# Altium schematic symbol library SchLib_ADH.SchLib: 241 symbols (part 8 of 9)
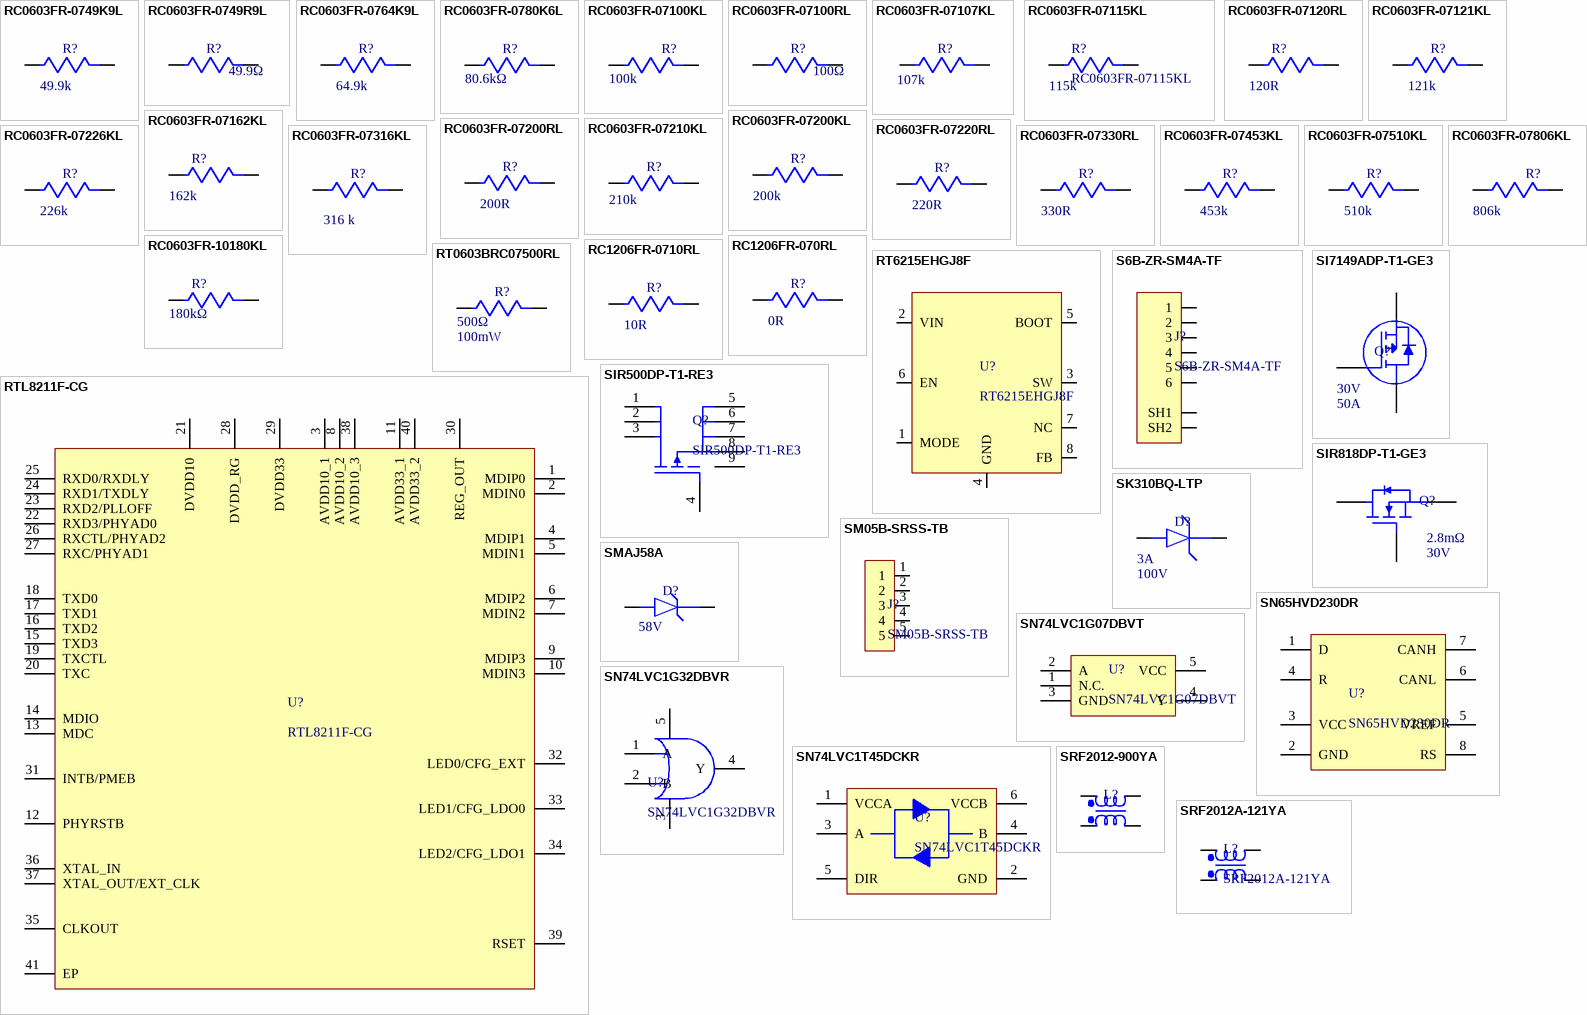
[diagram p14: symbols RC0603FR-0749K9L to SRF2012A-121YA]

## RC1206FR-0710RL
designator R?  value 10R  (hidden comment: RC1206FR-0710RL)
SMD Chip Resistor, 10 Ohm, ± 1%, 250 mW, 1206 [3216 Metric], Thick Film, General Purpose; Manufacturer: Yageo; Voltage Rating (AC): 200V; Supplier: Digikey; Supplier Part Number: 311-10.0FRCT-ND; Manufacturer Part Number: RC1206FR-0710RL; RoHS: Yes; Category: Chip SMD Resistors; Stock: 1026850; Pricing: 1=0,13, 10=0,064, 50=0,0426, 100=0,0364, 500=0,02612, 1000=0,023 (USD); Lead Free: 5697LeadFree; ComponentLink1URL: https://datasheet.ciiva.com/11819/0900766b80c6630a-11819896.pdf?src-supplier=Rs; ComponentLink1Description: https://datasheet.ciiva.com/11819/0900766b80c6630a-11819896.pdf?src-supplier=Rs; ComponentLink2URL: https://datasheet.ciiva.com/22735/444357-22735648.pdf?src-supplier=Farnell; ComponentLink2Description: https://datasheet.ciiva.com/22735/444357-22735648.pdf?src-supplier=Farnell; ComponentLink3URL: https://datasheet.ciiva.com/29181/402303-da-01-en-smd-widerstand-chip1206-10-ohm-29181572.pdf?src-supplier=Conrad; ComponentLink3Description: https://datasheet.ciiva.com/29181/402303-da-01-en-smd-widerstand-chip1206-10-ohm-29181572.pdf?src-supplier=Conrad; ComponentLink4URL: https://datasheet.ciiva.com/2460/pyu-rc1206-51-rohs-l-4-2460048.pdf?src-supplier=Digikey; ComponentLink4Description: https://datasheet.ciiva.com/2460/pyu-rc1206-51-rohs-l-4-2460048.pdf?src-supplier=Digikey; ComponentLink5URL: https://datasheet.ciiva.com/2460/pyu-rc1206-51-rohs-l-4-2460049.pdf?src-supplier=Digikey; ComponentLink5Description: https://datasheet.ciiva.com/2460/pyu-rc1206-51-rohs-l-4-2460049.pdf?src-supplier=Digikey; ComponentLink6URL: https://datasheet.ciiva.com/2460/pyu-rc1206-51-rohs-l-4-2460050.pdf?src-supplier=Digikey; ComponentLink6Description: https://datasheet.ciiva.com/2460/pyu-rc1206-51-rohs-l-4-2460050.pdf?src-supplier=Digikey; ComponentLink7URL: https://datasheet.ciiva.com/46445/444357-46445704.pdf?src-supplier=Element14; ComponentLink7Description: https://datasheet.ciiva.com/46445/444357-46445704.pdf?src-supplier=Element14; ComponentLink8URL: https://datasheet.ciiva.com/16962/pyu-rc1206-51-rohs-l-4-16962857.pdf?src-supplier=Future+Electronics; ComponentLink8Description: https://datasheet.ciiva.com/16962/pyu-rc1206-51-rohs-l-4-16962857.pdf?src-supplier=Future+Electronics
footprint R-1206
pins: 1, 2

## RT0603BRC07500RL
designator R?  value 500Ω  Power Rating: 100mW  (hidden comment: RT0603BRC07500RL)
Fixed Resistor, Thin Film, 0.1W, 500ohm, 75V, 0.1% +/-Tol, 15ppm/Cel, Surface Mount, 0603; Manufacturer: Yageo Group; Temperature Coefficient: 15ppm/°C; Supplier: Farnell; Supplier Part Number: 4152629; Manufacturer Part Number: RT0603BRC07500RL; RoHS: Compliant; Category: Chip SMD Resistors; Stock: 4870; Pricing: 5000=0,12 (EUR); Case/Package: 0603; China RoHS: Non-Compliant; Composition: Thin Film; Height: 450µm; Lifecycle Status: Production; Max Operating Temperature: 155°C; Min Operating Temperature: -55°C; Mounting Technology: Surface Mount; Number of Terminals: 2; Packaging: Tape & Reel; Power Dissipation: 100mW; REACH SVHC: Yes; Tolerance: 0.1%; Voltage Rating: 75V; Width: 800µm; Working Voltage: 75V; ComponentLink1URL: https://datasheet.octopart.com:443/RT0603BRC07500RL-Yageo-datasheet-176402239.pdf?src-supplier=IHS; ComponentLink1Description: https://datasheet.octopart.com:443/RT0603BRC07500RL-Yageo-datasheet-176402239.pdf?src-supplier=IHS; ComponentLink2URL: https://datasheet.octopart.com:443/RT0603BRC07500RL-Yageo-datasheet-141265893.pdf?src-supplier=ODG+(Origin+Data+Global); ComponentLink2Description: https://datasheet.octopart.com:443/RT0603BRC07500RL-Yageo-datasheet-141265893.pdf?src-supplier=ODG+(Origin+Data+Global); ComponentLink3URL: https://datasheet.octopart.com:443/RT0603BRC07500RL-Yageo-datasheet-169971040.pdf?src-supplier=Upverter; ComponentLink3Description: https://datasheet.octopart.com:443/RT0603BRC07500RL-Yageo-datasheet-169971040.pdf?src-supplier=Upverter; ComponentLink4URL: https://datasheet.octopart.com:443/RT0603BRC07500RL-Yageo-datasheet-166250672.pdf?src-supplier=Future+Electronics; ComponentLink4Description: https://datasheet.octopart.com:443/RT0603BRC07500RL-Yageo-datasheet-166250672.pdf?src-supplier=Future+Electronics; ComponentLink5URL: https://datasheet.octopart.com/RT0603BRC07500RL-Yageo-datasheet-86813807.pdf; ComponentLink5Description: https://datasheet.octopart.com/RT0603BRC07500RL-Yageo-datasheet-86813807.pdf; ComponentLink6URL: http://sigma.octopart.com:80/rohs_statement/Yageo-company-2.pdf?src-supplier=Compliance+Statements; ComponentLink6Description: http://sigma.octopart.com:80/rohs_statement/Yageo-company-2.pdf?src-supplier=Compliance+Statements; ComponentLink7URL: http://sigma.octopart.com:80/conflict_mineral_statement/Yageo-company-3.pdf?src-supplier=Compliance+Statements; ComponentLink7Description: http://sigma.octopart.com:80/conflict_mineral_statement/Yageo-company-3.pdf?src-supplier=Compliance+Statements
footprint RESISTOR_0603
pins: 1, 2

## RT6215EHGJ8F
designator U?
Buck Switching Regulator IC Positive Adjustable 0.791V 1 Output 2A SOT-23-8 Thin, TSOT-23-8; Manufacturer: Richtek; Number of Outputs: 1; Min Input Voltage: 4.5V; Max Supply Voltage: 24V; Min Output Voltage: 791mV; Max Output Voltage: 5V; Switching Frequency: 500kHz; Synchronous Rectifier: Yes; Supplier: Digi-Key; Supplier Part Number: RT6215EHGJ8FCT-ND; Manufacturer Part Number: RT6215EHGJ8F; RoHS: No; Category: Voltage Regulators - Switching; Stock: 5469; Pricing: 1=0,99, 10=0,888, 25=0,8428, 100=0,6923, 250=0,64712, 500=0,57186, 1000=0,45147 (USD); Min Operating Temperature: -40°C; Max Operating Temperature: 85°C; Output Current: 2A; Output Type: Adjustable; Output Configuration: Positive; Series: ACOT™; RoHS Compliant: Yes; ComponentLink1URL: http://www.farnell.com/datasheets/2259293.pdf?src-supplier=Farnell; ComponentLink1Description: http://www.farnell.com/datasheets/2259293.pdf?src-supplier=Farnell; ComponentLink2URL: http://www.farnell.com/datasheets/2259293.pdf?src-supplier=Newark; ComponentLink2Description: http://www.farnell.com/datasheets/2259293.pdf?src-supplier=Newark; ComponentLink3URL: http://www.richtek.com/assets/product_file/RT6215E/DS6215E-00.pdf?src-supplier=Digi-Key; ComponentLink3Description: http://www.richtek.com/assets/product_file/RT6215E/DS6215E-00.pdf?src-supplier=Digi-Key; ComponentLink4URL: https://www.richtek.com/assets/product_file/RT6215E/DS6215E-00.pdf?src-supplier=Digi-Key; ComponentLink4Description: https://www.richtek.com/assets/product_file/RT6215E/DS6215E-00.pdf?src-supplier=Digi-Key
footprint IC_LTC2960HTS8-1#TRMPBF
pins: 1 MODE, 2 VIN, 3 SW, 4 GND, 5 BOOT, 6 EN, 7 NC, 8 FB

## RTL8211F-CG
designator U?
Ethernet Transceiver RGMII WQFN-40-EP(5x5) Drivers, Receivers, Transceivers RoHS; Manufacturer Part Number: RTL8211F-CG
footprint QFN40P500X500X90-41N-D
pins: 1 MDIP0, 2 MDIN0, 3 AVDD10_1, 4 MDIP1, 5 MDIN1, 6 MDIP2, 7 MDIN2, 8 AVDD10_2, 9 MDIP3, 10 MDIN3, 11 AVDD33_1, 12 PHYRSTB, 13 MDC, 14 MDIO, 15 TXD3, 16 TXD2, 17 TXD1, 18 TXD0, 19 TXCTL, 20 TXC, 21 DVDD10, 22 RXD3/PHYAD0, 23 RXD2/PLLOFF, 24 RXD1/TXDLY, 25 RXD0/RXDLY, 26 RXCTL/PHYAD2, 27 RXC/PHYAD1, 28 DVDD_RG, 29 DVDD33, 30 REG_OUT, 31 INTB/PMEB, 32 LED0/CFG_EXT, 33 LED1/CFG_LDO0, 34 LED2/CFG_LDO1, 35 CLKOUT, 36 XTAL_IN, 37 XTAL_OUT/EXT_CLK, 38 AVDD10_3, 39 RSET, 40 AVDD33_2, 41 EP

## S6B-ZR-SM4A-TF
designator J?
Header S6B-ZR-SM4A-TF, 1.50mm, 6-contacts, side entry, SMT, /1000/reel; Manufacturer: JST; Number of Contacts: 6; Gender: Male; Supplier: Digi-Key; Supplier Part Number: 455-S6B-ZR-SM4A-TFCT-ND; Manufacturer Part Number: S6B-ZR-SM4A-TF; RoHS: Yes; Category: Connectors; Stock: 59171; Pricing: 1=0,8, 10=0,701, 100=0,578, 500=0,50258 (USD); Mounting Technology: Surface Mount; Contact Plating: Tin; Contact Material: Brass; Number of Rows: 1; Termination: SMD/SMT; Packaging: Cut Tape; Series: ZH; Orientation: Horizontal; Reach SVHC Compliant: Yes; ComponentLink1URL: http://www.farnell.com/datasheets/1393424.pdf?src-supplier=Farnell; ComponentLink1Description: http://www.farnell.com/datasheets/1393424.pdf?src-supplier=Farnell; ComponentLink2URL: http://www.farnell.com/datasheets/621906.pdf?src-supplier=Newark; ComponentLink2Description: http://www.farnell.com/datasheets/621906.pdf?src-supplier=Newark; ComponentLink3URL: http://www.farnell.com/datasheets/621906.pdf?src-supplier=Element14; ComponentLink3Description: http://www.farnell.com/datasheets/621906.pdf?src-supplier=Element14
footprint JST_S6B-ZR-SM4A-TF(LF)(SN)
pins: 1, 2, 3, 4, 5, 6, SH1, SH2

## SI7149ADP-T1-GE3
designator Q?  Voltage Rating: 30V  Current Rating: 50A  (hidden comment: SI7149ADP-T1-GE3)
P-Channel 30-V (D-S) Mosfet Rohs Compliant: Yes |Vishay SI7149ADP-T1-GE3; Manufacturer: Vishay Siliconix; Supplier: Digikey; Supplier Part Number: SI7149ADP-T1-GE3CT-ND; Manufacturer Part Number: SI7149ADP-T1-GE3; RoHS: Yes; Category: MOSFETs; Stock: 19680; Pricing: 1=0,87, 10=0,755, 100=0,5227, 500=0,43672, 1000=0,37168 (USD); ComponentLink1URL: https://datasheet.ciiva.com/24009/si7149adp-254096-24009021.pdf?src-supplier=Mouser; ComponentLink1Description: https://datasheet.ciiva.com/24009/si7149adp-254096-24009021.pdf?src-supplier=Mouser; ComponentLink2URL: https://datasheet.ciiva.com/30021/si7149adp-30021558.pdf?src-supplier=Avnet; ComponentLink2Description: https://datasheet.ciiva.com/30021/si7149adp-30021558.pdf?src-supplier=Avnet; ComponentLink3URL: https://datasheet.ciiva.com/18566/si7149adp-18566890.pdf?src-supplier=Digikey; ComponentLink3Description: https://datasheet.ciiva.com/18566/si7149adp-18566890.pdf?src-supplier=Digikey; ComponentLink4URL: https://datasheet.ciiva.com/18566/si7149adp-18566891.pdf?src-supplier=Digikey; ComponentLink4Description: https://datasheet.ciiva.com/18566/si7149adp-18566891.pdf?src-supplier=Digikey; ComponentLink5URL: https://datasheet.ciiva.com/18566/si7149adp-18566892.pdf?src-supplier=Digikey; ComponentLink5Description: https://datasheet.ciiva.com/18566/si7149adp-18566892.pdf?src-supplier=Digikey
footprint SIR500DPT1RE3
pins: 1, 2, 3, 4, 5, 6, 7, 8, 9

## SIR500DP-T1-RE3
designator Q?
Mosfet, N-Ch, 30V, 350.8A, Powerpak So Rohs Compliant: Yes; Manufacturer: Vishay; Supplier: Digi-Key; Supplier Part Number: 742-SIR500DP-T1-RE3CT-ND; Manufacturer Part Number: SIR500DP-T1-RE3; RoHS: Yes; Stock: 5276; Pricing: 1=1,58, 10=1,31, 100=1,0425, 500=0,88208, 1000=0,74843 (USD)
footprint SIR500DPT1RE3
pins: 1 S_1, 2 S_2, 3 S_3, 4 G, 5 D_1, 6 D_2, 7 D_3, 8 D_4, 9 EP

## SIR818DP-T1-GE3
designator Q?  Rds On Max: 2.8mΩ  Drain to Source Breakdown Voltage: 30V  (hidden comment: SIR818DP-T1-GE3)
Single N-Channel 30 V 0.0028 Ohm 69 W Surface Mount Power Mosfet - PowerPAK-SO-8; Manufacturer: Vishay; Continuous Drain Current (ID): 50A; Drain to Source Resistance: 3.3mΩ; Fall Time: 10ns; Gate to Source Voltage (Vgs): 20V; Input Capacitance: 3.66nF; Max Power Dissipation: 69W; Number of Channels: 1; Power Dissipation: 5.2W; Value: 2.8mΩ; Rise Time: 15ns; Turn-Off Delay Time: 36ns; Turn-On Delay Time: 14ns; Supplier: Arrow Electronics; Supplier Part Number: SIR818DP-T1-GE3; Manufacturer Part Number: SIR818DP-T1-GE3; RoHS: Compliant; Category: MOSFETs; Stock: 3000; Pricing: 3000=0,4523 (USD); Drain to Source Voltage (Vdss): 30V; Element Configuration: Single; Lead Free: Lead Free; Lifecycle Status: NRND; Max Operating Temperature: 150°C; Min Breakdown Voltage: 30V; Min Operating Temperature: -55°C; Mounting Technology: Surface Mount; Number of Elements: 1; Pins: 8; Number of Terminals: 5; Radiation Hardening: No; REACH SVHC: Yes; Schedule B: 8541290080, 8541290080|8541290080|8541290080|8541290080|8541290080; Weight: 506.605978mg; ComponentLink1URL: https://datasheet.octopart.com:443/SIR818DP-T1-GE3-Vishay-datasheet-181474050.pdf?src-supplier=IHS; ComponentLink1Description: https://datasheet.octopart.com:443/SIR818DP-T1-GE3-Vishay-datasheet-181474050.pdf?src-supplier=IHS; ComponentLink2URL: https://datasheet.octopart.com:443/SIR818DP-T1-GE3-Vishay-datasheet-12524466.pdf?src-supplier=Future+Electronics; ComponentLink2Description: https://datasheet.octopart.com:443/SIR818DP-T1-GE3-Vishay-datasheet-12524466.pdf?src-supplier=Future+Electronics; ComponentLink3URL: http://sigma.octopart.com:80/rohs_statement/Vishay-company-15.pdf?src-supplier=Compliance+Statements; ComponentLink3Description: http://sigma.octopart.com:80/rohs_statement/Vishay-company-15.pdf?src-supplier=Compliance+Statements
footprint SIR500DPT1RE3
pins: 1 S_1, 2 S_2, 3 S_3, 4 G, 5 D_1, 6 D_2, 7 D_3, 8 D_4, 9 EP

## SK310BQ-LTP
designator D?  Current: 3A  Voltage: 100V  (hidden comment: SK310BQ-LTP)
Diode Schottky 100V 3A 2-Pin SMB T/R Automotive AEC-Q101; Manufacturer: MCC; Supplier: Digikey; Supplier Part Number: 353-SK310BQ-LTPCT-ND; Manufacturer Part Number: SK310BQ-LTP; RoHS: No; Category: LDO; Stock: 5725; Pricing: 1=0,62, 10=0,542, 100=0,375, 500=0,3133, 1000=0,26664 (USD)
footprint DIOM5436X247N
pins: A, C

## SM05B-SRSS-TB
designator J?
Header SM05B-SRSS-TB, 1.00mm, 5-contacts, side entry, SMT /3000/reel; Manufacturer: JST; Number of Positions: 5; Pitch: 0.039inch; Supplier: Digi-Key; Supplier Part Number: 455-SM05B-SRSS-TBCT-ND; Manufacturer Part Number: SM05B-SRSS-TB; RoHS: No; Category: Connectors; Stock: 32066; Pricing: 1=0,71, 10=0,618, 100=0,5091, 500=0,44268, 1000=0,36521 (USD); Mounting Technology: Surface Mount; Color: Natural; Contact Plating: Tin,Lead; Contact Material: Copper Alloy; Housing Color: Natural; Housing Material: Nylon; Number of Rows: 1; Packaging: Cut Tape; Termination: Solder; Number of Contacts: 5; Series: SR; Contact Type: Male Pin; Package Quantity: 1; Lead Free: Contains Lead; ComponentLink1URL: https://datasheet.ciiva.com/6905/srconnector-6905301.pdf?src-supplier=Digi-Key; ComponentLink1Description: https://datasheet.ciiva.com/6905/srconnector-6905301.pdf?src-supplier=Digi-Key; ComponentLink2URL: https://datasheet.ciiva.com/6905/srconnector-6905303.pdf?src-supplier=Digi-Key; ComponentLink2Description: https://datasheet.ciiva.com/6905/srconnector-6905303.pdf?src-supplier=Digi-Key
footprint JST-SR-SIDE-5
pins: 1, 2, 3, 4, 5

## SMAJ58A
designator D?  Rep Pk Reverse Voltage-Max: 58V  (hidden comment: SMAJ58A)
Trans Voltage Suppressor Diode, 400W, 58V V(RWM), Unidirectional, 1 Element, Silicon, DO-214AC; Manufacturer: Littelfuse; Package Body Material: Plastic; Number of Elements: 1; Max Breakdown Voltage: 71.2V; Min Breakdown Voltage: 64.4V; Breakdown Voltage-Nom: 67.8V; Time @ Peak Reflow Temperature-Max (s): 40s; Clamping Voltage-Max: 93.6V; Qualification Status: Not Qualified; Supplier 1: Digikey; Manufacturer Part Number: SMAJ58A; RoHS: Yes; Category: TVS Diodes; Stock 1: 32791; Pricing 1: 1=0.39, 10=0.275, 100=0.1385, 500=0.12278, 1000=0.09555, 2000=0.08552 (USD); Pins: 2; Package Shape: Rectangular; Terminal Finish: Tin; Diode Element Material: SILICON; Min Operating Temperature: -65°C; Max Operating Temperature: 150°C; JESD-30 Code: R-PDSO-C2; Package Style: SMALL OUTLINEMeter; Surface Mount: Yes; Terminal Form: C BEND; Terminal Position: DUAL; JESD-609 Code: e3; Moisture Sensitivity Level: 1; Technology: AVALANCHE; Polarity: Unidirectional; Diode Type: TRANS VOLTAGE SUPPRESSOR; Non-rep Peak Rev Power Dis-Max: 400W; Peak Reflow Temperature (Cel): 260°C; RoHS Compliant: Yes; Reach SVHC Compliant: No; JEDEC-95 Code: DO-214AC; ComponentLink1URL: https://datasheet.ciiva.com:443/pdfs/VipMasterIC/IC/LFSI/LFSI-S-A0001360630/LFSI-S-A0001360630-1.pdf?src-supplier=IHS+Markit; ComponentLink1Description: https://datasheet.ciiva.com:443/pdfs/VipMasterIC/IC/LFSI/LFSI-S-A0001360630/LFSI-S-A0001360630-1.pdf?src-supplier=IHS+Markit; Supplier Part Number 1: SMAJ58ALFCT-ND
footprint DIODE_B160-13-F
pins: 1, 2

## SN65HVD230DR
designator U?
EAR99 65HVD230 Cut Tape (CT) CANbus interface driver 3.3V 17mA 72.603129mg 1Mbps; Manufacturer: Texas Instruments; Slew Rate: 15V/µs; Supplier: Digi-Key; Supplier Part Number: 296-11654-1-ND; Manufacturer Part Number: SN65HVD230DR; RoHS: Yes; Category: Interface ICs; Stock: 83402; Pricing: 1=2,5, 10=2,248, 25=2,1208, 100=1,8071, 250=1,6968, 500=1,4847, 1000=1,23018 (USD); Length: 4.9mm; Width: 3.91mm; Height: 1.75mm; Thickness: 1.58mm; ComponentLink1URL: https://datasheet.ciiva.com/3303/slos346k-3303008.pdf?src-supplier=Avnet; ComponentLink1Description: https://datasheet.ciiva.com/3303/slos346k-3303008.pdf?src-supplier=Avnet; ComponentLink2URL: https://datasheet.ciiva.com/27052/1495682-27052294.pdf?src-supplier=Jameco; ComponentLink2Description: https://datasheet.ciiva.com/27052/1495682-27052294.pdf?src-supplier=Jameco; ComponentLink3URL: https://datasheet.ciiva.com/4781/sn65hvd230-86923-4781328.pdf?src-supplier=Mouser; ComponentLink3Description: https://datasheet.ciiva.com/4781/sn65hvd230-86923-4781328.pdf?src-supplier=Mouser; ComponentLink4URL: https://datasheet.ciiva.com/28652/1695240-28652369.pdf?src-supplier=Element14; ComponentLink4Description: https://datasheet.ciiva.com/28652/1695240-28652369.pdf?src-supplier=Element14; ComponentLink5URL: https://datasheet.ciiva.com/15150/getdatasheetpartid-393721-15150028.pdf?src-supplier=Verical; ComponentLink5Description: https://datasheet.ciiva.com/15150/getdatasheetpartid-393721-15150028.pdf?src-supplier=Verical; ComponentLink6URL: https://datasheet.ciiva.com/1705/sn65hvd230-1705286.pdf?src-supplier=Digi-Key; ComponentLink6Description: https://datasheet.ciiva.com/1705/sn65hvd230-1705286.pdf?src-supplier=Digi-Key; ComponentLink7URL: https://datasheet.ciiva.com/1705/sn65hvd230-1705287.pdf?src-supplier=Digi-Key; ComponentLink7Description: https://datasheet.ciiva.com/1705/sn65hvd230-1705287.pdf?src-supplier=Digi-Key; ComponentLink8URL: https://datasheet.ciiva.com/1705/sn65hvd230-1705288.pdf?src-supplier=Digi-Key; ComponentLink8Description: https://datasheet.ciiva.com/1705/sn65hvd230-1705288.pdf?src-supplier=Digi-Key; ComponentLink9URL: https://datasheet.ciiva.com/22694/1887486-22694362.pdf?src-supplier=Element14; ComponentLink9Description: https://datasheet.ciiva.com/22694/1887486-22694362.pdf?src-supplier=Element14
footprint SOIC127P599X175-8N
pins: 1 D, 2 GND, 3 VCC, 4 R, 5 VREF, 6 CANL, 7 CANH, 8 RS

## SN74LVC1G07DBVT
designator U?
32mA 1 1.65V~5.5V 1 SOT-23-5 Buffer/Driver/Transceiver ROHS; Manufacturer: Texas Instruments; Manufacturer Lifecycle Status: ACTIVE; Logic Function: Buffer, Inverting; Max Junction Temperature (Tj): 150°C; Max Supply Voltage: 5.5V; Min Supply Voltage: 1.65V; Nominal Supply Current: 10µA; Number of Bits: 1; Polarity: Non-Inverting; Propagation Delay: 4ns; Turn-On Delay Time: 8.3ns; Supplier: Arrow Electronics; Supplier Part Number: SN74LVC1G07DBVT; Manufacturer Part Number: SN74LVC1G07DBVT; RoHS: Compliant; Category: Buffers, Drivers and Transceivers; Stock: 10; Pricing: 1=0,5486, 10=0,3682 (USD); Ambient Temperature Range High: 125°C; Case/Package: SOT-23; Height: 1.45mm; Lead Free: Lead Free; Length: 2.9mm; Lifecycle Status: Production; Low Level Output Current: 32mA; Max Operating Temperature: 125°C; Min Operating Temperature: -40°C; Mounting Technology: Surface Mount; Number of Bits per Element: 1; Number of Channels: 1; Number of Circuits: 1; Number of Elements: 1; Number of Gates: 1; Number of Input Lines: 1; Number of Inputs: 1; Number of Output Lines: 1; Number of Outputs: 1; Pins: 5; Packaging: Cut Tape; Quiescent Current: 10µA; Radiation Hardening: No; REACH SVHC: No; Schedule B: 8542390000, 8542390000|8542390000|8542390000|8542390000|8542390000|8542390000|8542390000|8542390000|8542390000|8542390000|8542390000|8542390000|8542390000|8542390000|8542390000|8542390000|8542390000|8542390000|8542390000|8542390000|8542390000|8542390000|8542390000|85; Termination: SMD/SMT; Thickness: 1.2mm; Width: 1.6mm; ComponentLink1URL: https://sigma.octopart.com:443/177332311/technical_drawing/Texas-Instruments-SN74LVC1G07DBVT.pdf?src-supplier=Texas+Instruments; ComponentLink1Description: https://sigma.octopart.com:443/177332311/technical_drawing/Texas-Instruments-SN74LVC1G07DBVT.pdf?src-supplier=Texas+Instruments; ComponentLink2URL: https://octopart.com:443/opatz8j6/c1?t=RA1ceLmCAqHPZwS4WBWL5MviyE-KPQgssl4QIPP4hkYXy01U65DpOM4OXHb7dM_TRyM3HiXpErdHJQEWc1zCNhzG-J5W9-gq9VzQHq0AHb711AZgtfa2gXQ-FXMmb-AxobmP_spfwIxXQxjDSjUy8RNySBUjlN5T5hfYl4oHWGsQ9M720g_DYz0B2ezIb8BEUYlrK8NQiE3Q6laiMDc2IucXkrRp5ciQFN4ZWf_zybGYYhLcrQT4xSG3tnwz2opb-2UMPMYxrvQox3Bl1YiVktS6gKf9h9R3ee7QKioW2jUNs528TEurA-eZB1T1lUOc7G5g9UcqomHeYhCbsf0OE_SMwoBUrdfdqjGZYAaPugKCI7tPa5BgLvTVFfdYyMbb3Xv0xYtsPvM&src-supplier=Texas+Instruments; ComponentLink2Description: https://octopart.com:443/opatz8j6/c1?t=RA1ceLmCAqHPZwS4WBWL5MviyE-KPQgssl4QIPP4hkYXy01U65DpOM4OXHb7dM_TRyM3HiXpErdHJQEWc1zCNhzG-J5W9-gq9VzQHq0AHb711AZgtfa2gXQ-FXMmb-AxobmP_spfwIxXQxjDSjUy8RNySBUjlN5T5hfYl4oHWGsQ9M720g_DYz0B2ezIb8BEUYlrK8NQiE3Q6laiMDc2IucXkrRp5ciQFN4ZWf_zybGYYhLcrQT4xSG3tnwz2opb-2UMPMYxrvQox3Bl1YiVktS6gKf9h9R3ee7QKioW2jUNs528TEurA-eZB1T1lUOc7G5g9UcqomHeYhCbsf0OE_SMwoBUrdfdqjGZYAaPugKCI7tPa5BgLvTVFfdYyMbb3Xv0xYtsPvM&src-supplier=Texas+Instruments; ComponentLink3URL: https://datasheet.octopart.com:443/SN74LVC1G07DBVT-Texas-Instruments-datasheet-10899237.pdf?src-supplier=Texas+Instruments; ComponentLink3Description: https://datasheet.octopart.com:443/SN74LVC1G07DBVT-Texas-Instruments-datasheet-10899237.pdf?src-supplier=Texas+Instruments; ComponentLink4URL: https://sigma.octopart.com:443/175570406/technical_drawing/Texas-Instruments-SN74LVC1G07DBVT.pdf?src-supplier=Texas+Instruments; ComponentLink4Description: https://sigma.octopart.com:443/175570406/technical_drawing/Texas-Instruments-SN74LVC1G07DBVT.pdf?src-supplier=Texas+Instruments; ComponentLink5URL: https://sigma.octopart.com:443/169406034/technical_drawing/Texas-Instruments-SN74LVC1G07DBVT.pdf?src-supplier=Texas+Instruments; ComponentLink5Description: https://sigma.octopart.com:443/169406034/technical_drawing/Texas-Instruments-SN74LVC1G07DBVT.pdf?src-supplier=Texas+Instruments; ComponentLink6URL: https://sigma.octopart.com:443/155939316/technical_drawing/Texas-Instruments-SN74LVC1G07DBVT.pdf?src-supplier=Texas+Instruments; ComponentLink6Description: https://sigma.octopart.com:443/155939316/technical_drawing/Texas-Instruments-SN74LVC1G07DBVT.pdf?src-supplier=Texas+Instruments; ComponentLink7URL: https://sigma.octopart.com:443/102331370/technical_drawing/Texas-Instruments-SN74LVC1G07DBVT.pdf?src-supplier=Texas+Instruments; ComponentLink7Description: https://sigma.octopart.com:443/102331370/technical_drawing/Texas-Instruments-SN74LVC1G07DBVT.pdf?src-supplier=Texas+Instruments; ComponentLink8URL: https://sigma.octopart.com:443/49249325/technical_drawing/Texas-Instruments-SN74LVC1G07DBVT.pdf?src-supplier=Texas+Instruments; ComponentLink8Description: https://sigma.octopart.com:443/49249325/technical_drawing/Texas-Instruments-SN74LVC1G07DBVT.pdf?src-supplier=Texas+Instruments; ComponentLink9URL: https://datasheet.octopart.com:443/SN74LVC1G07DBVT-Texas-Instruments-datasheet-25356048.pdf?src-supplier=Texas+Instruments; ComponentLink9Description: https://datasheet.octopart.com:443/SN74LVC1G07DBVT-Texas-Instruments-datasheet-25356048.pdf?src-supplier=Texas+Instruments; ComponentLink10URL: https://datasheet.octopart.com:443/SN74LVC1G07DBVT-Texas-Instruments-datasheet-24565342.pdf?src-supplier=Texas+Instruments; ComponentLink10Description: https://datasheet.octopart.com:443/SN74LVC1G07DBVT-Texas-Instruments-datasheet-24565342.pdf?src-supplier=Texas+Instruments; ComponentLink11URL: https://datasheet.octopart.com:443/SN74LVC1G07DBVT-Texas-Instruments-datasheet-16941355.pdf?src-supplier=Texas+Instruments; ComponentLink11Description: https://datasheet.octopart.com:443/SN74LVC1G07DBVT-Texas-Instruments-datasheet-16941355.pdf?src-supplier=Texas+Instruments; ComponentLink12URL: https://datasheet.octopart.com:443/SN74LVC1G07DBVT-Texas-Instruments-datasheet-13040538.pdf?src-supplier=Texas+Instruments; ComponentLink12Description: https://datasheet.octopart.com:443/SN74LVC1G07DBVT-Texas-Instruments-datasheet-13040538.pdf?src-supplier=Texas+Instruments; ComponentLink13URL: https://datasheet.octopart.com:443/SN74LVC1G07DBVT-Texas-Instruments-datasheet-153181.pdf?src-supplier=Texas+Instruments; ComponentLink13Description: https://datasheet.octopart.com:443/SN74LVC1G07DBVT-Texas-Instruments-datasheet-153181.pdf?src-supplier=Texas+Instruments; ComponentLink14URL: https://datasheet.octopart.com:443/SN74LVC1G07DBVT-Texas-Instruments-datasheet-10852091.pdf?src-supplier=HQonline; ComponentLink14Description: https://datasheet.octopart.com:443/SN74LVC1G07DBVT-Texas-Instruments-datasheet-10852091.pdf?src-supplier=HQonline; ComponentLink15URL: https://datasheet.octopart.com:443/SN74LVC1G07DBVT-Texas-Instruments-datasheet-8500040.pdf?src-supplier=Newark; ComponentLink15Description: https://datasheet.octopart.com:443/SN74LVC1G07DBVT-Texas-Instruments-datasheet-8500040.pdf?src-supplier=Newark; ComponentLink16URL: https://datasheet.octopart.com:443/SN74LVC1G07DBVT-Texas-Instruments-datasheet-5328147.pdf?src-supplier=Newark; ComponentLink16Description: https://datasheet.octopart.com:443/SN74LVC1G07DBVT-Texas-Instruments-datasheet-5328147.pdf?src-supplier=Newark; ComponentLink17URL: https://datasheet.octopart.com:443/SN74LVC1G07DBVT-Texas-Instruments-datasheet-65713477.pdf?src-supplier=Newark; ComponentLink17Description: https://datasheet.octopart.com:443/SN74LVC1G07DBVT-Texas-Instruments-datasheet-65713477.pdf?src-supplier=Newark; ComponentLink18URL: https://datasheet.octopart.com:443/SN74LVC1G07DBVT-Texas-Instruments-datasheet-37140337.pdf?src-supplier=Newark; ComponentLink18Description: https://datasheet.octopart.com:443/SN74LVC1G07DBVT-Texas-Instruments-datasheet-37140337.pdf?src-supplier=Newark; ComponentLink19URL: https://datasheet.octopart.com:443/SN74LVC1G07DBVT-Texas-Instruments-datasheet-33018797.pdf?src-supplier=Newark; ComponentLink19Description: https://datasheet.octopart.com:443/SN74LVC1G07DBVT-Texas-Instruments-datasheet-33018797.pdf?src-supplier=Newark; ComponentLink20URL: https://datasheet.octopart.com:443/SN74LVC1G07DBVT-Texas-Instruments-datasheet-43176.pdf?src-supplier=Newark; ComponentLink20Description: https://datasheet.octopart.com:443/SN74LVC1G07DBVT-Texas-Instruments-datasheet-43176.pdf?src-supplier=Newark; ComponentLink21URL: https://datasheet.octopart.com:443/SN74LVC1G07DBVT-Texas-Instruments-datasheet-165804489.pdf?src-supplier=LCSC; ComponentLink21Description: https://datasheet.octopart.com:443/SN74LVC1G07DBVT-Texas-Instruments-datasheet-165804489.pdf?src-supplier=LCSC; ComponentLink22URL: https://datasheet.octopart.com:443/SN74LVC1G07DBVT-Texas-Instruments-datasheet-164417647.pdf?src-supplier=SHENGYU+ELECTRONICS; ComponentLink22Description: https://datasheet.octopart.com:443/SN74LVC1G07DBVT-Texas-Instruments-datasheet-164417647.pdf?src-supplier=SHENGYU+ELECTRONICS; ComponentLink23URL: https://datasheet.octopart.com:443/SN74LVC1G07DBVT-Texas-Instruments-datasheet-21076814.pdf?src-supplier=Farnell; ComponentLink23Description: https://datasheet.octopart.com:443/SN74LVC1G07DBVT-Texas-Instruments-datasheet-21076814.pdf?src-supplier=Farnell; ComponentLink24URL: https://datasheet.octopart.com:443/SN74LVC1G07DBVT-Texas-Instruments-datasheet-11537500.pdf?src-supplier=Farnell; ComponentLink24Description: https://datasheet.octopart.com:443/SN74LVC1G07DBVT-Texas-Instruments-datasheet-11537500.pdf?src-supplier=Farnell; ComponentLink25URL: https://datasheet.octopart.com:443/SN74LVC1G07DBVT-Texas-Instruments-datasheet-10998566.pdf?src-supplier=Farnell; ComponentLink25Description: https://datasheet.octopart.com:443/SN74LVC1G07DBVT-Texas-Instruments-datasheet-10998566.pdf?src-supplier=Farnell; ComponentLink26URL: https://datasheet.octopart.com:443/SN74LVC1G07DBVT-Texas-Instruments-datasheet-8323564.pdf?src-supplier=Jameco; ComponentLink26Description: https://datasheet.octopart.com:443/SN74LVC1G07DBVT-Texas-Instruments-datasheet-8323564.pdf?src-supplier=Jameco; ComponentLink27URL: https://datasheet.octopart.com:443/SN74LVC1G07DBVT-Texas-Instruments-datasheet-33002.pdf?src-supplier=Sierra+IC; ComponentLink27Description: https://datasheet.octopart.com:443/SN74LVC1G07DBVT-Texas-Instruments-datasheet-33002.pdf?src-supplier=Sierra+IC; ComponentLink28URL: http://sigma.octopart.com:80/reach_statement/Texas-Instruments-company-64.pdf?src-supplier=Compliance+Statements; ComponentLink28Description: http://sigma.octopart.com:80/reach_statement/Texas-Instruments-company-64.pdf?src-supplier=Compliance+Statements; ComponentLink29URL: http://sigma.octopart.com:80/conflict_mineral_statement/Texas-Instruments-company-63.pdf?src-supplier=Compliance+Statements; ComponentLink29Description: http://sigma.octopart.com:80/conflict_mineral_statement/Texas-Instruments-company-63.pdf?src-supplier=Compliance+Statements
footprint SOT95P280X145-5N
pins: 1 N.C., 2 A, 3 GND, 4 Y, 5 VCC

## SN74LVC1G32DBVR
designator U?
OR Gate, LVC/LCX/Z Series, 1-Func, 2-Input, CMOS, PDSO5; Manufacturer: Texas Instruments; Package Body Material: Plastic; Load Capacitance (CL): 50pF; Load/Preset Input: Yes; Logic Type: OR GATE; Max I(ol): 24mA; Channels: 1; Number of Inputs: 2; Output Characteristics: 3-STATE; Package Equivalence Code: TSOP5/6,.11,37; Power Supplies: 3.3V; Prop. Delay@Nom-Sup: 4.5ns; Propagation Delay (tpd): 8ns; Schmitt Trigger: No; Max Supply Voltage: 5.5V; Min Supply Voltage: 1.65V; Qualification Status: Not Qualified; Supplier 1: Digikey; Manufacturer Part Number: SN74LVC1G32DBVR; RoHS: Yes; Category: Logic Gates; Stock 1: 177351; Pricing 1: 1=0.14, 10=0.089, 25=0.0772, 100=0.0637, 250=0.05728, 500=0.0534, 1000=0.05021 (USD); Case/Package: LSSOP; Pins: 5; Package Shape: Rectangular; Terminal Finish: Nickel; Min Operating Temperature: -40°C; Max Operating Temperature: 125°C; JESD-609 Code: e4; JESD-30 Code: R-PDSO-G5; Moisture Sensitivity Level: 1; Package Style: SMALL OUTLINE, LOW PROFILE, SHRINK PITCHMeter; Packaging: Tape and Reel; Peak Reflow Temperature (Cel): 260°C; Nominal Supply Voltage: 3.3V; Surface Mount: Yes; Technology: CMOS; Terminal Form: Gull Wing; Terminal Position: DUAL; Length: 2.9mm; Width: 1.6mm; Height - Seated (Max): 1.45mm; Terminal Pitch: 0.95mm; Temperature Grade: AUTOMOTIVE; Reach SVHC Compliant: Yes; RoHS Compliant: Yes; ComponentLink1URL: https://www.ti.com:443/lit/ds/symlink/sn74lvc1g32.pdf?src-supplier=IHS+Markit; ComponentLink1Description: https://www.ti.com:443/lit/ds/symlink/sn74lvc1g32.pdf?src-supplier=IHS+Markit; ComponentLink2URL: https://datasheet.ciiva.com/1864/sn74lvc1g32-1864213.pdf?src-supplier=Digikey; ComponentLink2Description: https://datasheet.ciiva.com/1864/sn74lvc1g32-1864213.pdf?src-supplier=Digikey; ComponentLink3URL: https://datasheet.ciiva.com/1864/sn74lvc1g32-1864212.pdf?src-supplier=Digikey; ComponentLink3Description: https://datasheet.ciiva.com/1864/sn74lvc1g32-1864212.pdf?src-supplier=Digikey; ComponentLink4URL: https://datasheet.ciiva.com/1864/sn74lvc1g32-1864214.pdf?src-supplier=Digikey; ComponentLink4Description: https://datasheet.ciiva.com/1864/sn74lvc1g32-1864214.pdf?src-supplier=Digikey; ComponentLink5URL: https://datasheet.ciiva.com/14290/sn74lvc1g32-14290775.pdf?src-supplier=Avnet; ComponentLink5Description: https://datasheet.ciiva.com/14290/sn74lvc1g32-14290775.pdf?src-supplier=Avnet; Supplier Part Number 1: 296-9847-1-ND
footprint SOT65P210X110-5N
pins: 1 A, 2 B, 3 GND, 4 Y, 5 VCC

## SN74LVC1T45DCKR
designator U?
Bus Transceiver, LVC/LCX/Z Series, 1-Func, 1-Bit, True Output, CMOS, PDSO6; Manufacturer: Texas Instruments; Package Body Material: Plastic; Control Type: COMMON CONTROL; Count Direction: Bidirectional; Load/Preset Input: Yes; Max I(ol): 24mA; Number of Bits: 1; Number of Ports: 2; Output Characteristics: 3-STATE; Package Equivalence Code: TSSOP6,.08; Power Supplies: 3.3V; Propagation Delay (tpd): 17.7ns; Max Supply Voltage: 5.5V; Min Supply Voltage: 1.65V; Nominal Supply Voltage: 1.8V; Qualification Status: Not Qualified; Supplier 1: Digikey; RoHS: Yes; Category: Logic ICs; Stock 1: 65632; Pricing 1: 1=0.66, 10=0.451, 25=0.3988, 100=0.3412, 250=0.31364, 500=0.297, 1000=0.28332 (USD); Case/Package: TSSOP; Pins: 6; Package Shape: Rectangular; Terminal Finish: Nickel; Min Operating Temperature: -40°C; Max Operating Temperature: 85°C; JESD-609 Code: e4; Output Polarity: True; JESD-30 Code: R-PDSO-G6; Logic Type: BUS TRANSCEIVER; Moisture Sensitivity Level: 1; Channels: 1; Package Style: SMALL OUTLINE, THIN PROFILE, SHRINK PITCHMeter; Packaging: Tape and Reel; Peak Reflow Temperature (Cel): 260°C; Surface Mount: Yes; Technology: CMOS; Terminal Form: Gull Wing; Terminal Position: DUAL; Length: 2mm; Width: 1.25mm; Height - Seated (Max): 1.1mm; Terminal Pitch: 0.65mm; Temperature Grade: INDUSTRIAL; Reach SVHC Compliant: Yes; RoHS Compliant: Yes; ComponentLink1URL: https://www.ti.com:443/lit/ds/symlink/sn74lvc1t45.pdf?src-supplier=IHS+Markit; ComponentLink1Description: https://www.ti.com:443/lit/ds/symlink/sn74lvc1t45.pdf?src-supplier=IHS+Markit; ComponentLink2URL: https://datasheet.ciiva.com/15086/getdatasheetpartid-190116-15086313.pdf?src-supplier=Verical; ComponentLink2Description: https://datasheet.ciiva.com/15086/getdatasheetpartid-190116-15086313.pdf?src-supplier=Verical; ComponentLink3URL: https://datasheet.ciiva.com/36526/2000557-36526242.pdf?src-supplier=Jameco; ComponentLink3Description: https://datasheet.ciiva.com/36526/2000557-36526242.pdf?src-supplier=Jameco; ComponentLink4URL: https://datasheet.ciiva.com/1899/sn74lvc1t45-1899257.pdf?src-supplier=Digikey; ComponentLink4Description: https://datasheet.ciiva.com/1899/sn74lvc1t45-1899257.pdf?src-supplier=Digikey; ComponentLink5URL: https://datasheet.ciiva.com/1899/sn74lvc1t45-1899258.pdf?src-supplier=Digikey; ComponentLink5Description: https://datasheet.ciiva.com/1899/sn74lvc1t45-1899258.pdf?src-supplier=Digikey; ComponentLink6URL: https://datasheet.ciiva.com/1899/sn74lvc1t45-1899259.pdf?src-supplier=Digikey; ComponentLink6Description: https://datasheet.ciiva.com/1899/sn74lvc1t45-1899259.pdf?src-supplier=Digikey; ComponentLink7URL: https://datasheet.ciiva.com/7744/1814968-7744166.pdf?src-supplier=Element14; ComponentLink7Description: https://datasheet.ciiva.com/7744/1814968-7744166.pdf?src-supplier=Element14; ComponentLink8URL: https://datasheet.ciiva.com/14300/sn74lvc1t45-14300773.pdf?src-supplier=Avnet; ComponentLink8Description: https://datasheet.ciiva.com/14300/sn74lvc1t45-14300773.pdf?src-supplier=Avnet; ComponentLink9URL: https://datasheet.ciiva.com/7293/1862463-7293671.pdf?src-supplier=Newark; ComponentLink9Description: https://datasheet.ciiva.com/7293/1862463-7293671.pdf?src-supplier=Newark; ComponentLink10URL: https://datasheet.ciiva.com/48703/001073763-da-01-en-ic-bus-trans-sn74lvc1t45dckr-sc-70-6-tid-48703349.pdf?src-supplier=Conrad; ComponentLink10Description: https://datasheet.ciiva.com/48703/001073763-da-01-en-ic-bus-trans-sn74lvc1t45dckr-sc-70-6-tid-48703349.pdf?src-supplier=Conrad; Supplier Part Number 1: 296-16844-1-ND; Manufacturer Part Number: SN74LVC1T45DCKR
footprint SOT65P210X110-6N
pins: 1 VCCA (power), 2 GND (power), 3 A, 4 B, 5 DIR, 6 VCCB (power)

## SRF2012-900YA
designator L?  (value not drawn)
Data Line Filter, 2 Function(s), 50V, 0.4A, 4 Pin(s); Manufacturer: Bourns; DC Resistance-Max: 300mR; Insulation Resistance-Min: 10MR; Channels: 2; Output Impedance: 90R; Current Rating: 400mA; Supplier 1: Digikey; Manufacturer Part Number: SRF2012-900YA; RoHS: Yes; Category: Inductors; Stock 1: 37000; Pricing 1: 1=0.38, 10=0.305, 25=0.2816, 50=0.258, 100=0.2275, 250=0.22048, 500=0.19704, 1000=0.15951 (USD); Mounting Technology: Surface Mount; Terminal Finish: Nickel; Min Operating Temperature: -40°C; Max Operating Temperature: 125°C; JESD-609 Code: e3; Filter Type: DATA LINE FILTER; Packaging: Tape and Reel; Voltage Rating: 50V; Length: 2mm; Width: 1.2mm; Height: 1.2mm; Reach SVHC Compliant: Yes; RoHS Compliant: Yes; ComponentLink1URL: https://datasheet.ciiva.com:443/pdfs/VipMasterIC/IC/BOUR/BOUR-S-A0009830447/BOUR-S-A0009830473-1.pdf?src-supplier=IHS+Markit; ComponentLink1Description: https://datasheet.ciiva.com:443/pdfs/VipMasterIC/IC/BOUR/BOUR-S-A0009830447/BOUR-S-A0009830473-1.pdf?src-supplier=IHS+Markit; ComponentLink2URL: https://datasheet.ciiva.com/11801/0900766b80fa59a2-11801726.pdf?src-supplier=Rs; ComponentLink2Description: https://datasheet.ciiva.com/11801/0900766b80fa59a2-11801726.pdf?src-supplier=Rs; ComponentLink3URL: https://datasheet.ciiva.com/1008/srf2012a-1008213.pdf?src-supplier=Digikey; ComponentLink3Description: https://datasheet.ciiva.com/1008/srf2012a-1008213.pdf?src-supplier=Digikey; ComponentLink4URL: https://datasheet.ciiva.com/1008/srf2012a-1008215.pdf?src-supplier=Digikey; ComponentLink4Description: https://datasheet.ciiva.com/1008/srf2012a-1008215.pdf?src-supplier=Digikey; Supplier Part Number 1: SRF2012-900YACT-ND
footprint SRF2012A900YA
pins: 1, 2, 3, 4

## SRF2012A-121YA
designator L?
Common Mode Chokes Dual 120Ohm 100MHz 0.4A 0.3Ohm DCR SMD Automotive T/R; Manufacturer: Bourns; Supplier: Digi-Key; Supplier Part Number: SRF2012A-121YACT-ND; Manufacturer Part Number: SRF2012A-121YA; RoHS: Yes; Category: Common Mode Chokes; Stock: 7716; Pricing: 1=0,38, 10=0,305, 25=0,2816, 50=0,258, 100=0,2275, 250=0,22048, 500=0,19704, 1000=0,15951 (USD); ComponentLink1URL: https://media.digikey.com/pdf/Data%20Sheets/Bourns%20PDFs/SRF2012AA_Series_DS.pdf?src-supplier=Digi-Key; ComponentLink1Description: https://media.digikey.com/pdf/Data%20Sheets/Bourns%20PDFs/SRF2012AA_Series_DS.pdf?src-supplier=Digi-Key; ComponentLink2URL: https://datasheet.octopart.com/SRF2012A-121YA-Bourns-datasheet-46733375.pdf?src-supplier=Element14; ComponentLink2Description: https://datasheet.octopart.com/SRF2012A-121YA-Bourns-datasheet-46733375.pdf?src-supplier=Element14; ComponentLink3URL: http://www.farnell.com/datasheets/1955468.pdf?src-supplier=Element14; ComponentLink3Description: http://www.farnell.com/datasheets/1955468.pdf?src-supplier=Element14; ComponentLink4URL: https://datasheet.octopart.com/SRF2012A-121YA-Bourns-datasheet-94099899.pdf?src-supplier=Farnell; ComponentLink4Description: https://datasheet.octopart.com/SRF2012A-121YA-Bourns-datasheet-94099899.pdf?src-supplier=Farnell
footprint SRF2012A900YA
pins: 1, 2, 3, 4

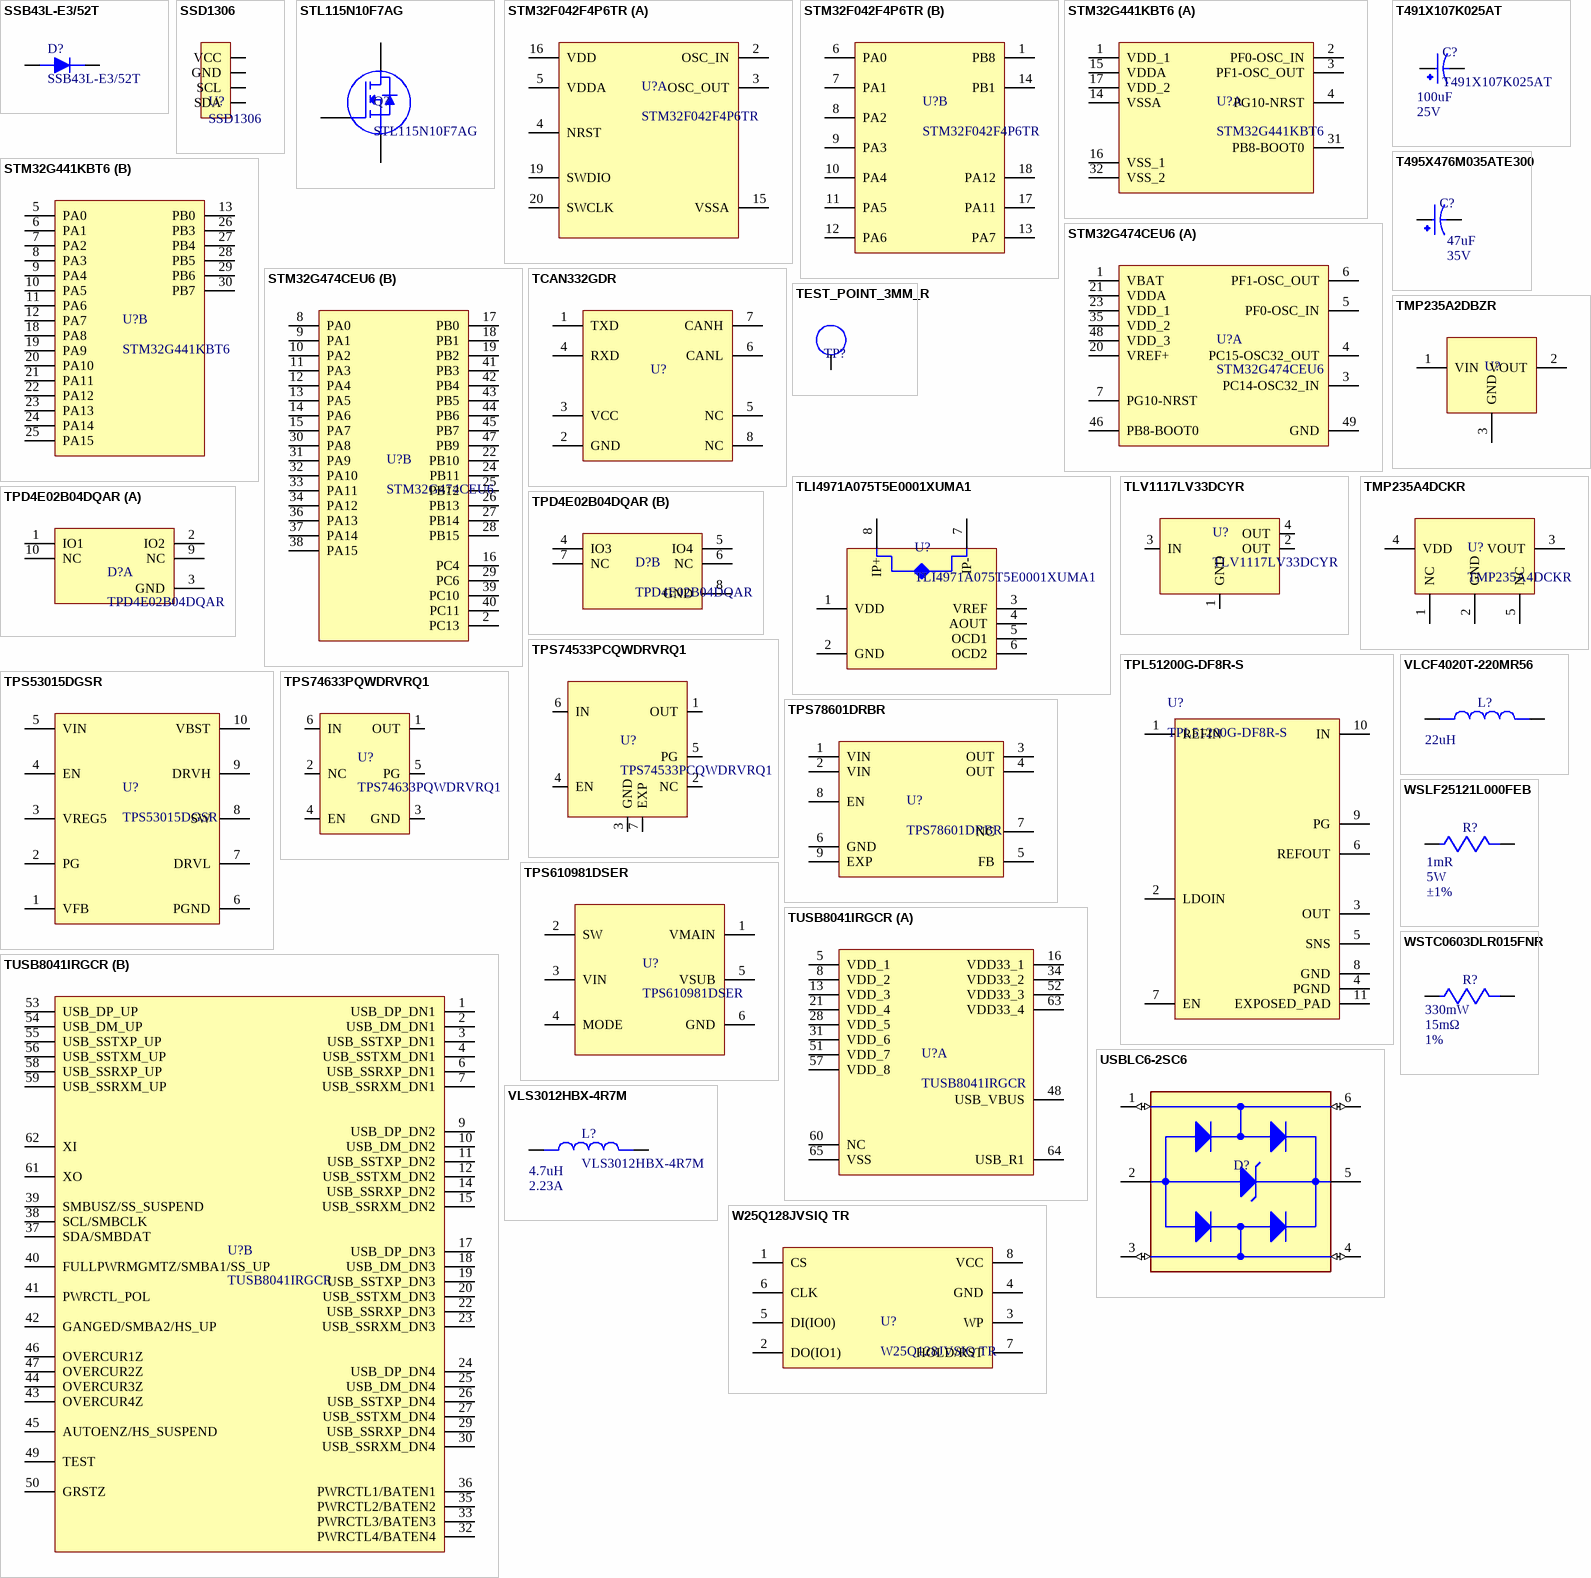
[diagram p6: symbols SSB43L-E3/52T to WSTC0603DLR015FNR]

## SSB43L-E3/52T
designator D?
Rectifier Diode Schottky 30V 4A 2-Pin SMB T/R / DIODE SCHOTTKY 30V 4A DO214AA; Manufacturer: Vishay Semiconductors; Supplier: Digi-Key; Supplier Part Number: SSB43L-E3/52TGICT-ND; Manufacturer Part Number: SSB43L-E3/52T; RoHS: Yes; Category: Rectifier Diodes; Stock: 42796; Pricing: 1=0,56, 10=0,482, 100=0,3351 (USD); ComponentLink1URL: https://datasheet.ciiva.com/14634/0900766b80dd0508-14634162.pdf?src-supplier=Allied+Electronics; ComponentLink1Description: https://datasheet.ciiva.com/14634/0900766b80dd0508-14634162.pdf?src-supplier=Allied+Electronics; ComponentLink2URL: https://datasheet.ciiva.com/7962/64541-7962449.pdf?src-supplier=Element14; ComponentLink2Description: https://datasheet.ciiva.com/7962/64541-7962449.pdf?src-supplier=Element14; ComponentLink3URL: https://datasheet.ciiva.com/4245/ssb43l-4245635.pdf?src-supplier=Arrow+Electronics; ComponentLink3Description: https://datasheet.ciiva.com/4245/ssb43l-4245635.pdf?src-supplier=Arrow+Electronics; ComponentLink4URL: https://datasheet.ciiva.com/15224/getdatasheetpartid-99263-15224680.pdf?src-supplier=Verical; ComponentLink4Description: https://datasheet.ciiva.com/15224/getdatasheetpartid-99263-15224680.pdf?src-supplier=Verical; ComponentLink5URL: https://datasheet.ciiva.com/18434/70217334-18434422.pdf?src-supplier=Allied+Electronics; ComponentLink5Description: https://datasheet.ciiva.com/18434/70217334-18434422.pdf?src-supplier=Allied+Electronics
footprint DIOM5436X247N
pins: A, C

## SSD1306
designator U?
0.96 inch I2C OLED Screen; Manufacturer Part Number: SSD1306
footprint 4XHEADER
pins: 1 VCC, 2 GND, 3 SCL, 4 SDA

## STL115N10F7AG
designator Q?
Power Field-Effect Transistor, 75A I(D), 100V, 0.006ohm, 1-Element, N-Channel, Silicon, Metal-oxide Semiconductor FET; Manufacturer: STMicroelectronics; Supplier 1: Digikey; Manufacturer Part Number: STL115N10F7AG; RoHS: Yes; Category: Transistors; Stock 1: 4731; Pricing 1: 1=2.69, 10=2.261, 100=1.8289, 500=1.6257, 1000=1.392 (USD); Reach SVHC Compliant: No; RoHS Compliant: Yes; ComponentLink1URL: https://datasheet.ciiva.com:443/pdfs/VipMasterIC/IC/SGST/SGST-S-A0002952688/SGST-S-A0002952688-1.pdf?src-supplier=IHS+Markit; ComponentLink1Description: https://datasheet.ciiva.com:443/pdfs/VipMasterIC/IC/SGST/SGST-S-A0002952688/SGST-S-A0002952688-1.pdf?src-supplier=IHS+Markit; ComponentLink2URL: http://www.st.com/content/ccc/resource/technical/document/datasheet/group3/f9/a0/ec/19/64/5a/4a/5d/DM00333356/files/DM00333356.pdf/jcr:content/translations/en.DM00333356.pdf?src-supplier=Digikey; ComponentLink2Description: http://www.st.com/content/ccc/resource/technical/document/datasheet/group3/f9/a0/ec/19/64/5a/4a/5d/DM00333356/files/DM00333356.pdf/jcr:content/translations/en.DM00333356.pdf?src-supplier=Digikey; ComponentLink3URL: https://datasheet.octopart.com/STL115N10F7AG-STMicroelectronics-datasheet-83961497.pdf?src-supplier=Newark; ComponentLink3Description: https://datasheet.octopart.com/STL115N10F7AG-STMicroelectronics-datasheet-83961497.pdf?src-supplier=Newark; Supplier Part Number 1: 497-17622-1-ND
footprint TRANS_STL60P4LLF6
pins: 1, 2, 3, 4, 5, 6, 7, 8

## STM32F042F4P6TR
designator U?
MCU 32-Bit STM32F ARM Cortex M0 RISC 16KB Flash 2.5V/3.3V 20-Pin TSSOP T/R; Manufacturer: STMicroelectronics; Nominal Supply Current: 1.7uA; Number of A/D Converters: 1NUMBER; Number of Channels: 9NUMBER; RAM Size: 6KB; Max Power Dissipation: 263mW; Interface: I2C,SPI,USB,CAN,HDMI,IrDA,UART,USART,LIN,I2S; Number of I/Os: 16; Number of Timers/Counters: 6; Oscillator Type: Internal; Data Bus Width: 32b; Watchdog Timer: Yes; Clock Frequency: 48MHz; Peripherals: POR,PWM,WDT,DMA; Max Supply Voltage: 3.6V; Min Supply Voltage: 2V; Supplier: Digikey; Supplier Part Number: 497-19320-1-ND; Manufacturer Part Number: STM32F042F4P6TR; RoHS: Yes; Category: Microcontrollers; Stock: 1145; Pricing: 1=2,94, 10=2,637, 25=2,4932, 100=2,1607, 250=2,04992, 500=1,8394, 1000=1,5513 (USD); Case/Package: TSSOP; Pins: 20; Min Operating Temperature: -40°C; Max Operating Temperature: 85°C; Packaging: Tape and Reel; Number of Programmable I/O: 16; Memory Format: FLASH; Package Quantity: 2500; Memory Size: 16KB; Core Architecture: ARM; Series: STM32 F0; Number of I2C Channels: 1NUMBER; Number of SPI Channels: 1NUMBER; Radiation Hardening: No; RoHS Compliant: Yes; ComponentLink1URL: https://datasheet.ciiva.com/48494/dm00105814-48494122.pdf?src-supplier=Avnet; ComponentLink1Description: https://datasheet.ciiva.com/48494/dm00105814-48494122.pdf?src-supplier=Avnet
footprint SOP65P640X120-20N
part A pins: 2 OSC_IN, 3 OSC_OUT, 4 NRST, 5 VDDA, 15 VSSA, 16 VDD, 19 SWDIO, 20 SWCLK
part B pins: 1 PB8, 6 PA0, 7 PA1, 8 PA2, 9 PA3, 10 PA4, 11 PA5, 12 PA6, 13 PA7, 14 PB1, 17 PA11, 18 PA12

## STM32G441KBT6
designator U?
MCU 32-Bit STM32G441 ARM Cortex-M4 RISC 128KB Flash 1.71V to 3.6V 32-Pin LQFP Tray; Manufacturer: STMicroelectronics; Supplier: Digikey; Supplier Part Number: 497-STM32G441KBT6-ND; Manufacturer Part Number: STM32G441KBT6; RoHS: Yes; Category: Microcontrollers; Stock: 2608; Pricing: 1=4,47, 10=4,019, 25=3,7996, 80=3,29288, 230=3,12404, 440=2,973 (USD)
footprint QFP80P900X900X160-32N
part A pins: 1 VDD_1, 2 PF0-OSC_IN, 3 PF1-OSC_OUT, 4 PG10-NRST, 14 VSSA, 15 VDDA, 16 VSS_1, 17 VDD_2, 31 PB8-BOOT0, 32 VSS_2
part B pins: 5 PA0, 6 PA1, 7 PA2, 8 PA3, 9 PA4, 10 PA5, 11 PA6, 12 PA7, 13 PB0, 18 PA8, 19 PA9, 20 PA10, 21 PA11, 22 PA12, 23 PA13, 24 PA14, 25 PA15, 26 PB3, 27 PB4, 28 PB5, 29 PB6, 30 PB7

## STM32G474CEU6
designator U?
MCU 32-Bit STM32G474 ARM Cortex-M4 RISC 512KB Flash 1.71V to 3.6V 48-Pin UFQFPN Tray; Manufacturer: STMicroelectronics; Data Bus Width: 32b; Frequency: 170MHz; Min Supply Voltage: 1.62V; Number of A/D Converters: 5NUMBER; Number of ADC Channels: 21NUMBER; Number of D/A Converters: 3NUMBER; Number of I2C Channels: 4NUMBER; Number of PWM Channels: 13NUMBER; Number of Timers/Counters: 2NUMBER; Number of USB Channels: 1NUMBER; RAM Size: 128KB; Supplier: Digi-Key; Supplier Part Number: 497-STM32G474CEU6-ND; Manufacturer Part Number: STM32G474CEU6; RoHS: Yes; Category: Microcontrollers; Stock: 940; Pricing: 1=10,03, 10=9,065, 25=8,6436, 80=7,50513, 230=7,16778, 440=6,53534, 1560=5,69206 (USD); Density: 512KB; Max Supply Voltage: 3.6V; Number of SPI Channels: 3NUMBER; Number of UART Channels: 4NUMBER; Height: 650um; ComponentLink1URL: http://www.farnell.com/datasheets/2818776.pdf?src-supplier=Farnell; ComponentLink1Description: http://www.farnell.com/datasheets/2818776.pdf?src-supplier=Farnell; ComponentLink2URL: https://www.st.com/resource/en/datasheet/stm32g474cb.pdf?src-supplier=Digi-Key; ComponentLink2Description: https://www.st.com/resource/en/datasheet/stm32g474cb.pdf?src-supplier=Digi-Key; ComponentLink3URL: http://www.farnell.com/datasheets/2818776.pdf?src-supplier=Newark; ComponentLink3Description: http://www.farnell.com/datasheets/2818776.pdf?src-supplier=Newark
footprint QFN50P700X700X60-49N-D
part A pins: 1 VBAT, 3 PC14-OSC32_IN, 4 PC15-OSC32_OUT, 5 PF0-OSC_IN, 6 PF1-OSC_OUT, 7 PG10-NRST, 20 VREF+, 21 VDDA, 23 VDD_1, 35 VDD_2, 46 PB8-BOOT0, 48 VDD_3, 49 GND
part B pins: 2 PC13, 8 PA0, 9 PA1, 10 PA2, 11 PA3, 12 PA4, 13 PA5, 14 PA6, 15 PA7, 16 PC4, 17 PB0, 18 PB1, 19 PB2, 22 PB10, 24 PB11, 25 PB12, 26 PB13, 27 PB14, 28 PB15, 29 PC6, 30 PA8, 31 PA9, 32 PA10, 33 PA11, 34 PA12, 36 PA13, 37 PA14, 38 PA15, 39 PC10, 40 PC11, 41 PB3, 42 PB4, 43 PB5, 44 PB6, 45 PB7, 47 PB9

## T491X107K025AT
designator C?  value 100uF  Voltage: 25V
Cap Tant Solid 100uF 25V X CASE 10% (7.3 X 4.3 X 4mm) Inward L SMD 7343-43 0.3 Ohm 125C T/R; Manufacturer: KEMET; Supplier: Digi-Key; Supplier Part Number: 399-8410-1-ND; Manufacturer Part Number: T491X107K025AT; RoHS: No; Category: Tantalum Capacitors; Stock: 45968; Pricing: 1=2,88, 10=2,328, 50=2,0316, 100=1,7776 (USD); ComponentLink1URL: https://datasheet.ciiva.com/28571/1854511-28571717.pdf?src-supplier=Element14; ComponentLink1Description: https://datasheet.ciiva.com/28571/1854511-28571717.pdf?src-supplier=Element14; ComponentLink2URL: https://datasheet.ciiva.com/6229/kem-t2005-t491-6229625.pdf?src-supplier=Digi-Key; ComponentLink2Description: https://datasheet.ciiva.com/6229/kem-t2005-t491-6229625.pdf?src-supplier=Digi-Key; ComponentLink3URL: https://datasheet.ciiva.com/6229/kem-t2005-t491-6229626.pdf?src-supplier=Digi-Key; ComponentLink3Description: https://datasheet.ciiva.com/6229/kem-t2005-t491-6229626.pdf?src-supplier=Digi-Key; ComponentLink4URL: https://datasheet.ciiva.com/6229/kem-t2005-t491-6229627.pdf?src-supplier=Digi-Key; ComponentLink4Description: https://datasheet.ciiva.com/6229/kem-t2005-t491-6229627.pdf?src-supplier=Digi-Key; ComponentLink5URL: https://datasheet.ciiva.com/22716/1854511-22716393.pdf?src-supplier=Element14; ComponentLink5Description: https://datasheet.ciiva.com/22716/1854511-22716393.pdf?src-supplier=Element14; ComponentLink6URL: https://datasheet.ciiva.com/22716/1854511-22716394.pdf?src-supplier=Element14; ComponentLink6Description: https://datasheet.ciiva.com/22716/1854511-22716394.pdf?src-supplier=Element14
footprint CAPMP7343X310N
pins: 1, 2

## T495X476M035ATE300
designator C?  value 47uF  Voltage Ratings: 35V  (hidden comment: T495X476M035ATE300)
Cap Tant Solid 47uF 35V X CASE 20% (7.3 X 4.3 X 4mm) SMD 7343-43 0.3 Ohm 125 C T/R; Manufacturer: KEMET; Supplier: Digi-Key; Supplier Part Number: 399-10312-1-ND; Manufacturer Part Number: T495X476M035ATE300; RoHS: Yes; Category: Tantalum Capacitors; Stock: 2749; Pricing: 1=2,12, 10=1,711, 50=1,4932, 100=1,3065 (USD); ComponentLink1URL: https://datasheet.ciiva.com/46437/1761160-46437884.pdf?src-supplier=Element14; ComponentLink1Description: https://datasheet.ciiva.com/46437/1761160-46437884.pdf?src-supplier=Element14; ComponentLink2URL: https://datasheet.ciiva.com/5933/kem-t2009-t495-5933557.pdf?src-supplier=Farnell; ComponentLink2Description: https://datasheet.ciiva.com/5933/kem-t2009-t495-5933557.pdf?src-supplier=Farnell; ComponentLink3URL: https://datasheet.ciiva.com/7759/kem-t2009-t495-7759181.pdf?src-supplier=Element14; ComponentLink3Description: https://datasheet.ciiva.com/7759/kem-t2009-t495-7759181.pdf?src-supplier=Element14
footprint CAPMP7343X310N
pins: 1, 2